# Altium integrated library Cypress PLD Simple.IntLib: 183 symbols (part 4 of 5)
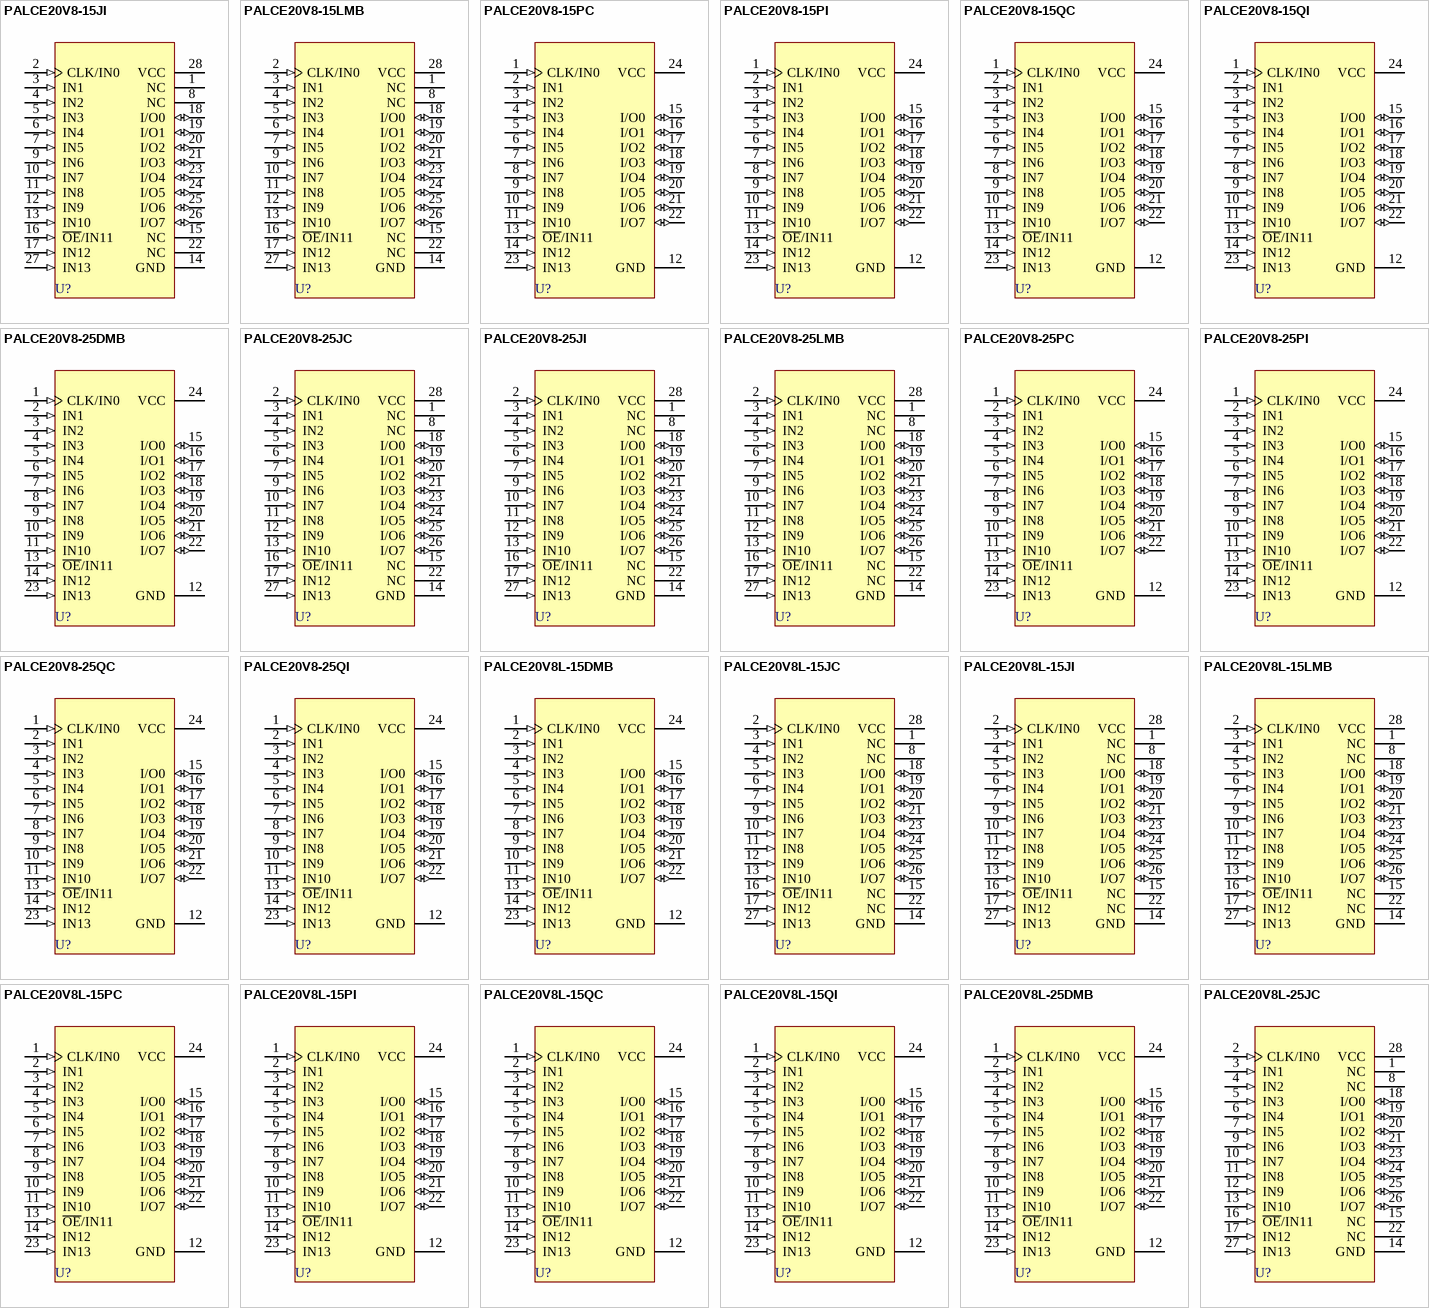
[diagram p10: symbols PALCE20V8-15JI to PALCE20V8L-25JC]

## PALCE20V8L-25DMB
designator U?
Flash Erasable, Reprogrammable CMOS PAL Device; ComponentAvailability: Not for New Design; Published: 11-Dec-2002; LatestRevisionDate: 04-Mar-2005; LatestRevisionNote: Stylized 3D Model Added.; DatasheetVersion: 26-Mar-1997; PackageVersion: Jul-2001; PackageReference: D14; Publisher: Altium Limited; PackageDescription: CerDIP; 24 Leads; Row Spacing 7.62 mm; Pitch 2.54 mm; Code_JEDEC: MS-001-AF; ComponentLink1Description: Manufacturer Link; ComponentLink1URL: http://www.cypress.com/; ComponentLink2Description: Datasheet; ComponentLink2URL: http://www.cypress.com/portal/server.pt/gateway/PTARGS_0_2_1524_209_259_43/http%3B/sjapp20.mis.cypress.com%3B7001/publishedcontent/publish/design_resources/datasheets/contents/palce20v8_5.pdf
footprint D14 (CerDIP; 24 Leads; Row Spacing 7.62 mm; Pitch 2.54 mm)
3D model D14 (CerDIP; 24 Leads; Row Spacing 7.62 mm; Pitch 2.54 mm)
pins: 1 CLK/IN0 (in), 2 IN1 (in), 3 IN2 (in), 4 IN3 (in), 5 IN4 (in), 6 IN5 (in), 7 IN6 (in), 8 IN7 (in), 9 IN8 (in), 10 IN9 (in), 11 IN10 (in), 12 GND (power), 13 ~{OE}/IN11 (in), 14 IN12 (in), 15 I/O0 (io), 16 I/O1 (io), 17 I/O2 (io), 18 I/O3 (io), 19 I/O4 (io), 20 I/O5 (io), 21 I/O6 (io), 22 I/O7 (io), 23 IN13 (in), 24 VCC (power)

## PALCE20V8L-25JC
designator U?
Flash Erasable, Reprogrammable CMOS PAL Device; ComponentAvailability: Not for New Design; Published: 11-Dec-2002; LatestRevisionDate: 13-Apr-2006; LatestRevisionNote: IPC-7351 Footprint Added.; DatasheetVersion: 26-Mar-1997; PackageVersion: Jul-2000; PackageReference: J64; Publisher: Altium Limited; PackageDescription: 28-Pin Plastic Leaded Chip Carrier 1.27 mm Pitch; Code_IPC: PLCC-28; ComponentLink1Description: Manufacturer Link; ComponentLink1URL: http://www.cypress.com/; ComponentLink2Description: Datasheet; ComponentLink2URL: http://www.cypress.com/portal/server.pt/gateway/PTARGS_0_2_1524_209_259_43/http%3B/sjapp20.mis.cypress.com%3B7001/publishedcontent/publish/design_resources/datasheets/contents/palce20v8_5.pdf
footprint J64_N (Leaded Chip Carrier, 28-Leads, Body 11.5x11.5mm, Pitch 1.27mm, IPC Medium Density)
footprint J64_L (Leaded Chip Carrier, 28-Leads, Body 11.5x11.5mm, Pitch 1.27mm, IPC High Density)
footprint J64_M (Leaded Chip Carrier, 28-Leads, Body 11.5x11.5mm, Pitch 1.27mm, IPC Low Density)
3D model PALCE20V8L-J64 (28-Pin Plastic Leaded Chip Carrier 1.27 mm Pitch)
pins: 1 NC, 2 CLK/IN0 (in), 3 IN1 (in), 4 IN2 (in), 5 IN3 (in), 6 IN4 (in), 7 IN5 (in), 8 NC, 9 IN6 (in), 10 IN7 (in), 11 IN8 (in), 12 IN9 (in), 13 IN10 (in), 14 GND (power), 15 NC, 16 ~{OE}/IN11 (in), 17 IN12 (in), 18 I/O0 (io), 19 I/O1 (io), 20 I/O2 (io), 21 I/O3 (io), 22 NC, 23 I/O4 (io), 24 I/O5 (io), 25 I/O6 (io), 26 I/O7 (io), 27 IN13 (in), 28 VCC (power)

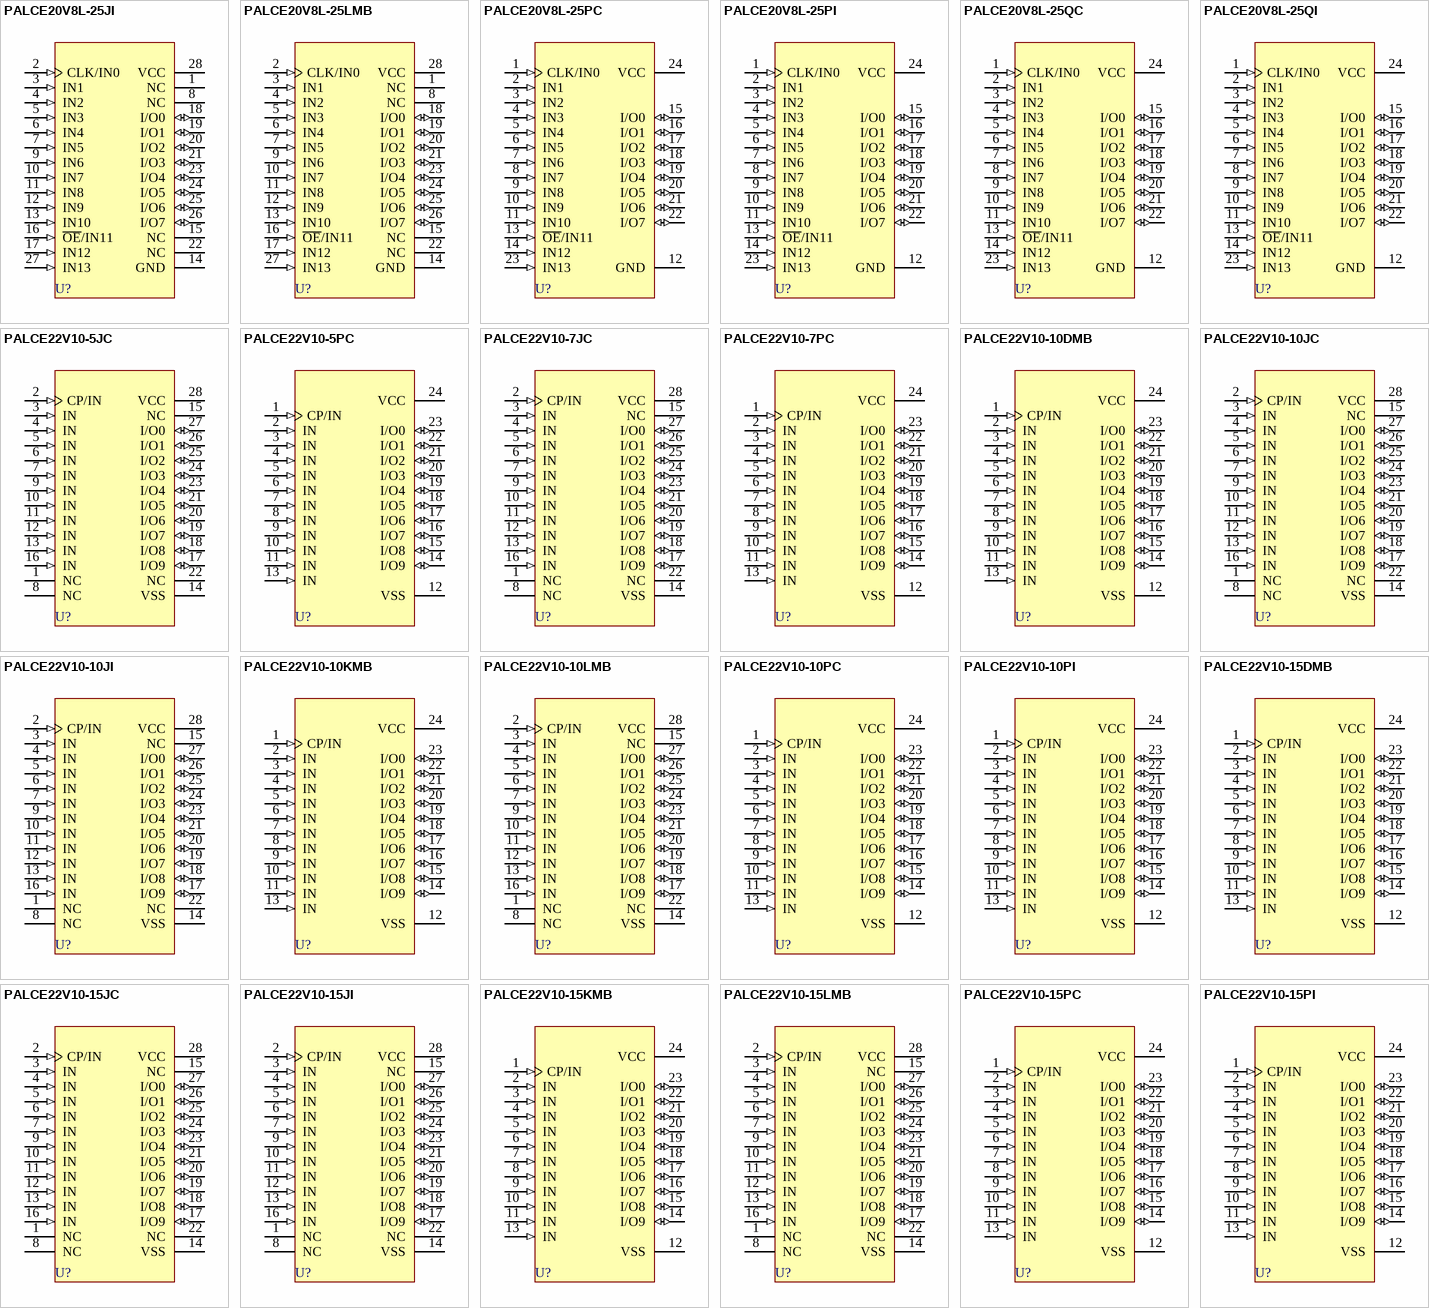
[diagram p5: symbols PALCE20V8L-25JI to PALCE22V10-15PI]

## PALCE20V8L-25JI
designator U?
Flash Erasable, Reprogrammable CMOS PAL Device; ComponentAvailability: Not for New Design; Published: 11-Dec-2002; LatestRevisionDate: 13-Apr-2006; LatestRevisionNote: IPC-7351 Footprint Added.; DatasheetVersion: 26-Mar-1997; PackageVersion: Jul-2000; PackageReference: J64; Publisher: Altium Limited; PackageDescription: 28-Pin Plastic Leaded Chip Carrier 1.27 mm Pitch; Code_IPC: PLCC-28; ComponentLink1Description: Manufacturer Link; ComponentLink1URL: http://www.cypress.com/; ComponentLink2Description: Datasheet; ComponentLink2URL: http://www.cypress.com/portal/server.pt/gateway/PTARGS_0_2_1524_209_259_43/http%3B/sjapp20.mis.cypress.com%3B7001/publishedcontent/publish/design_resources/datasheets/contents/palce20v8_5.pdf
footprint J64_N (Leaded Chip Carrier, 28-Leads, Body 11.5x11.5mm, Pitch 1.27mm, IPC Medium Density)
footprint J64_L (Leaded Chip Carrier, 28-Leads, Body 11.5x11.5mm, Pitch 1.27mm, IPC High Density)
footprint J64_M (Leaded Chip Carrier, 28-Leads, Body 11.5x11.5mm, Pitch 1.27mm, IPC Low Density)
3D model PALCE20V8L-J64 (28-Pin Plastic Leaded Chip Carrier 1.27 mm Pitch)
pins: 1 NC, 2 CLK/IN0 (in), 3 IN1 (in), 4 IN2 (in), 5 IN3 (in), 6 IN4 (in), 7 IN5 (in), 8 NC, 9 IN6 (in), 10 IN7 (in), 11 IN8 (in), 12 IN9 (in), 13 IN10 (in), 14 GND (power), 15 NC, 16 ~{OE}/IN11 (in), 17 IN12 (in), 18 I/O0 (io), 19 I/O1 (io), 20 I/O2 (io), 21 I/O3 (io), 22 NC, 23 I/O4 (io), 24 I/O5 (io), 25 I/O6 (io), 26 I/O7 (io), 27 IN13 (in), 28 VCC (power)

## PALCE20V8L-25LMB
designator U?
Flash Erasable, Reprogrammable CMOS PAL Device; ComponentAvailability: Not for New Design; Published: 11-Dec-2002; DatasheetVersion: 26-Mar-1997; PackageVersion: Apr-2001; PackageReference: L64; Publisher: Altium Limited; PackageDescription: Leadless Chip Carrier; 28 Terminals; Body 11.4 x 11.4 mm; ComponentLink1Description: Manufacturer Link; ComponentLink1URL: http://www.cypress.com/; ComponentLink2Description: Datasheet; ComponentLink2URL: http://www.cypress.com/portal/server.pt/gateway/PTARGS_0_2_1524_209_259_43/http%3B/sjapp20.mis.cypress.com%3B7001/publishedcontent/publish/design_resources/datasheets/contents/palce20v8_5.pdf
footprint L64 (Leadless Chip Carrier; 28 Terminals; Body 11.4 x 11.4 mm)
pins: 1 NC, 2 CLK/IN0 (in), 3 IN1 (in), 4 IN2 (in), 5 IN3 (in), 6 IN4 (in), 7 IN5 (in), 8 NC, 9 IN6 (in), 10 IN7 (in), 11 IN8 (in), 12 IN9 (in), 13 IN10 (in), 14 GND (power), 15 NC, 16 ~{OE}/IN11 (in), 17 IN12 (in), 18 I/O0 (io), 19 I/O1 (io), 20 I/O2 (io), 21 I/O3 (io), 22 NC, 23 I/O4 (io), 24 I/O5 (io), 25 I/O6 (io), 26 I/O7 (io), 27 IN13 (in), 28 VCC (power)

## PALCE20V8L-25PC
designator U?
Flash Erasable, Reprogrammable CMOS PAL Device; ComponentAvailability: Not for New Design; Published: 11-Dec-2002; LatestRevisionDate: 06-Oct-2005; LatestRevisionNote: Increased PCB silkscreen length.; DatasheetVersion: 26-Mar-1997; PackageVersion: Mar-2005; PackageReference: P13; Publisher: Altium Limited; PackageDescription: DIP, Molded; 24 Leads; Row Spacing 7.62 mm; Pitch 2.54 mm; ComponentLink1Description: Manufacturer Link; ComponentLink1URL: http://www.cypress.com/; ComponentLink2Description: Datasheet; ComponentLink2URL: http://www.cypress.com/portal/server.pt/gateway/PTARGS_0_2_1524_209_259_43/http%3B/sjapp20.mis.cypress.com%3B7001/publishedcontent/publish/design_resources/datasheets/contents/palce20v8_5.pdf
footprint P13 (DIP, Molded; 24 Leads; Row Spacing 7.62 mm; Pitch 2.54 mm)
3D model P13 (DIP, Molded; 24 Leads; Row Spacing 7.62 mm; Pitch 2.54 mm)
pins: 1 CLK/IN0 (in), 2 IN1 (in), 3 IN2 (in), 4 IN3 (in), 5 IN4 (in), 6 IN5 (in), 7 IN6 (in), 8 IN7 (in), 9 IN8 (in), 10 IN9 (in), 11 IN10 (in), 12 GND (power), 13 ~{OE}/IN11 (in), 14 IN12 (in), 15 I/O0 (io), 16 I/O1 (io), 17 I/O2 (io), 18 I/O3 (io), 19 I/O4 (io), 20 I/O5 (io), 21 I/O6 (io), 22 I/O7 (io), 23 IN13 (in), 24 VCC (power)

## PALCE20V8L-25PI
designator U?
Flash Erasable, Reprogrammable CMOS PAL Device; ComponentAvailability: Not for New Design; Published: 11-Dec-2002; LatestRevisionDate: 06-Oct-2005; LatestRevisionNote: Increased PCB silkscreen length.; DatasheetVersion: 26-Mar-1997; PackageVersion: Mar-2005; PackageReference: P13; Publisher: Altium Limited; PackageDescription: DIP, Molded; 24 Leads; Row Spacing 7.62 mm; Pitch 2.54 mm; ComponentLink1Description: Manufacturer Link; ComponentLink1URL: http://www.cypress.com/; ComponentLink2Description: Datasheet; ComponentLink2URL: http://www.cypress.com/portal/server.pt/gateway/PTARGS_0_2_1524_209_259_43/http%3B/sjapp20.mis.cypress.com%3B7001/publishedcontent/publish/design_resources/datasheets/contents/palce20v8_5.pdf
footprint P13 (DIP, Molded; 24 Leads; Row Spacing 7.62 mm; Pitch 2.54 mm)
3D model P13 (DIP, Molded; 24 Leads; Row Spacing 7.62 mm; Pitch 2.54 mm)
pins: 1 CLK/IN0 (in), 2 IN1 (in), 3 IN2 (in), 4 IN3 (in), 5 IN4 (in), 6 IN5 (in), 7 IN6 (in), 8 IN7 (in), 9 IN8 (in), 10 IN9 (in), 11 IN10 (in), 12 GND (power), 13 ~{OE}/IN11 (in), 14 IN12 (in), 15 I/O0 (io), 16 I/O1 (io), 17 I/O2 (io), 18 I/O3 (io), 19 I/O4 (io), 20 I/O5 (io), 21 I/O6 (io), 22 I/O7 (io), 23 IN13 (in), 24 VCC (power)

## PALCE20V8L-25QC
designator U?
Flash Erasable, Reprogrammable CMOS PAL Device; ComponentAvailability: Not for New Design; Published: 11-Dec-2002; LatestRevisionDate: 06-Oct-2005; LatestRevisionNote: Decreased pad length.; DatasheetVersion: 26-Mar-1997; PackageVersion: Oct-2004; PackageReference: Q13; Publisher: Altium Limited; PackageDescription: SSOP; 24 Leads; Body Width 3.9 mm; Pitch 0.635 mm; ComponentLink1Description: Manufacturer Link; ComponentLink1URL: http://www.cypress.com/; ComponentLink2Description: Datasheet; ComponentLink2URL: http://www.cypress.com/portal/server.pt/gateway/PTARGS_0_2_1524_209_259_43/http%3B/sjapp20.mis.cypress.com%3B7001/publishedcontent/publish/design_resources/datasheets/contents/palce20v8_5.pdf
footprint Q13 (SSOP; 24 Leads; Body Width 3.9 mm; Pitch 0.635 mm)
3D model Q13 (SSOP; 24 Leads; Body Width 3.9 mm; Pitch 0.635 mm)
pins: 1 CLK/IN0 (in), 2 IN1 (in), 3 IN2 (in), 4 IN3 (in), 5 IN4 (in), 6 IN5 (in), 7 IN6 (in), 8 IN7 (in), 9 IN8 (in), 10 IN9 (in), 11 IN10 (in), 12 GND (power), 13 ~{OE}/IN11 (in), 14 IN12 (in), 15 I/O0 (io), 16 I/O1 (io), 17 I/O2 (io), 18 I/O3 (io), 19 I/O4 (io), 20 I/O5 (io), 21 I/O6 (io), 22 I/O7 (io), 23 IN13 (in), 24 VCC (power)

## PALCE20V8L-25QI
designator U?
Flash Erasable, Reprogrammable CMOS PAL Device; ComponentAvailability: Not for New Design; Published: 11-Dec-2002; LatestRevisionDate: 06-Oct-2005; LatestRevisionNote: Decreased pad length.; DatasheetVersion: 26-Mar-1997; PackageVersion: Oct-2004; PackageReference: Q13; Publisher: Altium Limited; PackageDescription: SSOP; 24 Leads; Body Width 3.9 mm; Pitch 0.635 mm; ComponentLink1Description: Manufacturer Link; ComponentLink1URL: http://www.cypress.com/; ComponentLink2Description: Datasheet; ComponentLink2URL: http://www.cypress.com/portal/server.pt/gateway/PTARGS_0_2_1524_209_259_43/http%3B/sjapp20.mis.cypress.com%3B7001/publishedcontent/publish/design_resources/datasheets/contents/palce20v8_5.pdf
footprint Q13 (SSOP; 24 Leads; Body Width 3.9 mm; Pitch 0.635 mm)
3D model Q13 (SSOP; 24 Leads; Body Width 3.9 mm; Pitch 0.635 mm)
pins: 1 CLK/IN0 (in), 2 IN1 (in), 3 IN2 (in), 4 IN3 (in), 5 IN4 (in), 6 IN5 (in), 7 IN6 (in), 8 IN7 (in), 9 IN8 (in), 10 IN9 (in), 11 IN10 (in), 12 GND (power), 13 ~{OE}/IN11 (in), 14 IN12 (in), 15 I/O0 (io), 16 I/O1 (io), 17 I/O2 (io), 18 I/O3 (io), 19 I/O4 (io), 20 I/O5 (io), 21 I/O6 (io), 22 I/O7 (io), 23 IN13 (in), 24 VCC (power)

## PALCE22V10-5JC
designator U?
Flash Erasable, Reprogrammable CMOS PAL Device; ComponentAvailability: Not for New Design; Published: 11-Dec-2002; LatestRevisionDate: 13-Apr-2006; LatestRevisionNote: IPC-7351 Footprint Added.; DatasheetVersion: Sep-1996; PackageVersion: Jul-2000; PackageReference: J64; Publisher: Altium Limited; PackageDescription: 28-Pin Plastic Leaded Chip Carrier 1.27 mm Pitch; Code_IPC: PLCC-28; ComponentLink1Description: Manufacturer Link; ComponentLink1URL: http://www.cypress.com/; ComponentLink2Description: Datasheet; ComponentLink2URL: http://www.cypress.com/portal/server.pt/gateway/PTARGS_0_2_1524_209_259_43/http%3B/sjapp20.mis.cypress.com%3B7001/publishedcontent/publish/design_resources/datasheets/contents/palce22v10_5.pdf
footprint J64_N (Leaded Chip Carrier, 28-Leads, Body 11.5x11.5mm, Pitch 1.27mm, IPC Medium Density)
footprint J64_L (Leaded Chip Carrier, 28-Leads, Body 11.5x11.5mm, Pitch 1.27mm, IPC High Density)
footprint J64_M (Leaded Chip Carrier, 28-Leads, Body 11.5x11.5mm, Pitch 1.27mm, IPC Low Density)
3D model PALCE22V10-J64 (28-Pin Plastic Leaded Chip Carrier 1.27 mm Pitch)
pins: 1 NC, 2 CP/IN (in), 3 IN (in), 4 IN (in), 5 IN (in), 6 IN (in), 7 IN (in), 8 NC, 9 IN (in), 10 IN (in), 11 IN (in), 12 IN (in), 13 IN (in), 14 VSS (power), 15 NC, 16 IN (in), 17 I/O9 (io), 18 I/O8 (io), 19 I/O7 (io), 20 I/O6 (io), 21 I/O5 (io), 22 NC, 23 I/O4 (io), 24 I/O3 (io), 25 I/O2 (io), 26 I/O1 (io), 27 I/O0 (io), 28 VCC (power)

## PALCE22V10-5PC
designator U?
Flash Erasable, Reprogrammable CMOS PAL Device; ComponentAvailability: Not for New Design; Published: 11-Dec-2002; LatestRevisionDate: 06-Oct-2005; LatestRevisionNote: Increased PCB silkscreen length.; DatasheetVersion: Sep-1996; PackageVersion: Mar-2005; PackageReference: P13; Publisher: Altium Limited; PackageDescription: DIP, Molded; 24 Leads; Row Spacing 7.62 mm; Pitch 2.54 mm; ComponentLink1Description: Manufacturer Link; ComponentLink1URL: http://www.cypress.com/; ComponentLink2Description: Datasheet; ComponentLink2URL: http://www.cypress.com/portal/server.pt/gateway/PTARGS_0_2_1524_209_259_43/http%3B/sjapp20.mis.cypress.com%3B7001/publishedcontent/publish/design_resources/datasheets/contents/palce22v10_5.pdf
footprint P13 (DIP, Molded; 24 Leads; Row Spacing 7.62 mm; Pitch 2.54 mm)
3D model P13 (DIP, Molded; 24 Leads; Row Spacing 7.62 mm; Pitch 2.54 mm)
pins: 1 CP/IN (in), 2 IN (in), 3 IN (in), 4 IN (in), 5 IN (in), 6 IN (in), 7 IN (in), 8 IN (in), 9 IN (in), 10 IN (in), 11 IN (in), 12 VSS (power), 13 IN (in), 14 I/O9 (io), 15 I/O8 (io), 16 I/O7 (io), 17 I/O6 (io), 18 I/O5 (io), 19 I/O4 (io), 20 I/O3 (io), 21 I/O2 (io), 22 I/O1 (io), 23 I/O0 (io), 24 VCC (power)

## PALCE22V10-7JC
designator U?
Flash Erasable, Reprogrammable CMOS PAL Device; ComponentAvailability: Not for New Design; Published: 11-Dec-2002; LatestRevisionDate: 13-Apr-2006; LatestRevisionNote: IPC-7351 Footprint Added.; DatasheetVersion: Sep-1996; PackageVersion: Jul-2000; PackageReference: J64; Publisher: Altium Limited; PackageDescription: 28-Pin Plastic Leaded Chip Carrier 1.27 mm Pitch; Code_IPC: PLCC-28; ComponentLink1Description: Manufacturer Link; ComponentLink1URL: http://www.cypress.com/; ComponentLink2Description: Datasheet; ComponentLink2URL: http://www.cypress.com/portal/server.pt/gateway/PTARGS_0_2_1524_209_259_43/http%3B/sjapp20.mis.cypress.com%3B7001/publishedcontent/publish/design_resources/datasheets/contents/palce22v10_5.pdf
footprint J64_N (Leaded Chip Carrier, 28-Leads, Body 11.5x11.5mm, Pitch 1.27mm, IPC Medium Density)
footprint J64_L (Leaded Chip Carrier, 28-Leads, Body 11.5x11.5mm, Pitch 1.27mm, IPC High Density)
footprint J64_M (Leaded Chip Carrier, 28-Leads, Body 11.5x11.5mm, Pitch 1.27mm, IPC Low Density)
3D model PALCE22V10-J64 (28-Pin Plastic Leaded Chip Carrier 1.27 mm Pitch)
pins: 1 NC, 2 CP/IN (in), 3 IN (in), 4 IN (in), 5 IN (in), 6 IN (in), 7 IN (in), 8 NC, 9 IN (in), 10 IN (in), 11 IN (in), 12 IN (in), 13 IN (in), 14 VSS (power), 15 NC, 16 IN (in), 17 I/O9 (io), 18 I/O8 (io), 19 I/O7 (io), 20 I/O6 (io), 21 I/O5 (io), 22 NC, 23 I/O4 (io), 24 I/O3 (io), 25 I/O2 (io), 26 I/O1 (io), 27 I/O0 (io), 28 VCC (power)

## PALCE22V10-7PC
designator U?
Flash Erasable, Reprogrammable CMOS PAL Device; ComponentAvailability: Not for New Design; Published: 11-Dec-2002; LatestRevisionDate: 06-Oct-2005; LatestRevisionNote: Increased PCB silkscreen length.; DatasheetVersion: Sep-1996; PackageVersion: Mar-2005; PackageReference: P13; Publisher: Altium Limited; PackageDescription: DIP, Molded; 24 Leads; Row Spacing 7.62 mm; Pitch 2.54 mm; ComponentLink1Description: Manufacturer Link; ComponentLink1URL: http://www.cypress.com/; ComponentLink2Description: Datasheet; ComponentLink2URL: http://www.cypress.com/portal/server.pt/gateway/PTARGS_0_2_1524_209_259_43/http%3B/sjapp20.mis.cypress.com%3B7001/publishedcontent/publish/design_resources/datasheets/contents/palce22v10_5.pdf
footprint P13 (DIP, Molded; 24 Leads; Row Spacing 7.62 mm; Pitch 2.54 mm)
3D model P13 (DIP, Molded; 24 Leads; Row Spacing 7.62 mm; Pitch 2.54 mm)
pins: 1 CP/IN (in), 2 IN (in), 3 IN (in), 4 IN (in), 5 IN (in), 6 IN (in), 7 IN (in), 8 IN (in), 9 IN (in), 10 IN (in), 11 IN (in), 12 VSS (power), 13 IN (in), 14 I/O9 (io), 15 I/O8 (io), 16 I/O7 (io), 17 I/O6 (io), 18 I/O5 (io), 19 I/O4 (io), 20 I/O3 (io), 21 I/O2 (io), 22 I/O1 (io), 23 I/O0 (io), 24 VCC (power)

## PALCE22V10-10DMB
designator U?
Flash Erasable, Reprogrammable CMOS PAL Device; ComponentAvailability: Not for New Design; Published: 11-Dec-2002; LatestRevisionDate: 04-Mar-2005; LatestRevisionNote: Stylized 3D Model Added.; DatasheetVersion: Sep-1996; PackageVersion: Jul-2001; PackageReference: D14; Publisher: Altium Limited; PackageDescription: CerDIP; 24 Leads; Row Spacing 7.62 mm; Pitch 2.54 mm; Code_JEDEC: MS-001-AF; ComponentLink1Description: Manufacturer Link; ComponentLink1URL: http://www.cypress.com/; ComponentLink2Description: Datasheet; ComponentLink2URL: http://www.cypress.com/portal/server.pt/gateway/PTARGS_0_2_1524_209_259_43/http%3B/sjapp20.mis.cypress.com%3B7001/publishedcontent/publish/design_resources/datasheets/contents/palce22v10_5.pdf
footprint D14 (CerDIP; 24 Leads; Row Spacing 7.62 mm; Pitch 2.54 mm)
3D model D14 (CerDIP; 24 Leads; Row Spacing 7.62 mm; Pitch 2.54 mm)
pins: 1 CP/IN (in), 2 IN (in), 3 IN (in), 4 IN (in), 5 IN (in), 6 IN (in), 7 IN (in), 8 IN (in), 9 IN (in), 10 IN (in), 11 IN (in), 12 VSS (power), 13 IN (in), 14 I/O9 (io), 15 I/O8 (io), 16 I/O7 (io), 17 I/O6 (io), 18 I/O5 (io), 19 I/O4 (io), 20 I/O3 (io), 21 I/O2 (io), 22 I/O1 (io), 23 I/O0 (io), 24 VCC (power)

## PALCE22V10-10JC
designator U?
Flash Erasable, Reprogrammable CMOS PAL Device; ComponentAvailability: Not for New Design; Published: 11-Dec-2002; LatestRevisionDate: 13-Apr-2006; LatestRevisionNote: IPC-7351 Footprint Added.; DatasheetVersion: Sep-1996; PackageVersion: Jul-2000; PackageReference: J64; Publisher: Altium Limited; PackageDescription: 28-Pin Plastic Leaded Chip Carrier 1.27 mm Pitch; Code_IPC: PLCC-28; ComponentLink1Description: Manufacturer Link; ComponentLink1URL: http://www.cypress.com/; ComponentLink2Description: Datasheet; ComponentLink2URL: http://www.cypress.com/portal/server.pt/gateway/PTARGS_0_2_1524_209_259_43/http%3B/sjapp20.mis.cypress.com%3B7001/publishedcontent/publish/design_resources/datasheets/contents/palce22v10_5.pdf
footprint J64_N (Leaded Chip Carrier, 28-Leads, Body 11.5x11.5mm, Pitch 1.27mm, IPC Medium Density)
footprint J64_L (Leaded Chip Carrier, 28-Leads, Body 11.5x11.5mm, Pitch 1.27mm, IPC High Density)
footprint J64_M (Leaded Chip Carrier, 28-Leads, Body 11.5x11.5mm, Pitch 1.27mm, IPC Low Density)
3D model PALCE22V10-J64 (28-Pin Plastic Leaded Chip Carrier 1.27 mm Pitch)
pins: 1 NC, 2 CP/IN (in), 3 IN (in), 4 IN (in), 5 IN (in), 6 IN (in), 7 IN (in), 8 NC, 9 IN (in), 10 IN (in), 11 IN (in), 12 IN (in), 13 IN (in), 14 VSS (power), 15 NC, 16 IN (in), 17 I/O9 (io), 18 I/O8 (io), 19 I/O7 (io), 20 I/O6 (io), 21 I/O5 (io), 22 NC, 23 I/O4 (io), 24 I/O3 (io), 25 I/O2 (io), 26 I/O1 (io), 27 I/O0 (io), 28 VCC (power)

## PALCE22V10-10JI
designator U?
Flash Erasable, Reprogrammable CMOS PAL Device; ComponentAvailability: Not for New Design; Published: 11-Dec-2002; LatestRevisionDate: 13-Apr-2006; LatestRevisionNote: IPC-7351 Footprint Added.; DatasheetVersion: Sep-1996; PackageVersion: Jul-2000; PackageReference: J64; Publisher: Altium Limited; PackageDescription: 28-Pin Plastic Leaded Chip Carrier 1.27 mm Pitch; Code_IPC: PLCC-28; ComponentLink1Description: Manufacturer Link; ComponentLink1URL: http://www.cypress.com/; ComponentLink2Description: Datasheet; ComponentLink2URL: http://www.cypress.com/portal/server.pt/gateway/PTARGS_0_2_1524_209_259_43/http%3B/sjapp20.mis.cypress.com%3B7001/publishedcontent/publish/design_resources/datasheets/contents/palce22v10_5.pdf
footprint J64_N (Leaded Chip Carrier, 28-Leads, Body 11.5x11.5mm, Pitch 1.27mm, IPC Medium Density)
footprint J64_L (Leaded Chip Carrier, 28-Leads, Body 11.5x11.5mm, Pitch 1.27mm, IPC High Density)
footprint J64_M (Leaded Chip Carrier, 28-Leads, Body 11.5x11.5mm, Pitch 1.27mm, IPC Low Density)
3D model PALCE22V10-J64 (28-Pin Plastic Leaded Chip Carrier 1.27 mm Pitch)
pins: 1 NC, 2 CP/IN (in), 3 IN (in), 4 IN (in), 5 IN (in), 6 IN (in), 7 IN (in), 8 NC, 9 IN (in), 10 IN (in), 11 IN (in), 12 IN (in), 13 IN (in), 14 VSS (power), 15 NC, 16 IN (in), 17 I/O9 (io), 18 I/O8 (io), 19 I/O7 (io), 20 I/O6 (io), 21 I/O5 (io), 22 NC, 23 I/O4 (io), 24 I/O3 (io), 25 I/O2 (io), 26 I/O1 (io), 27 I/O0 (io), 28 VCC (power)

## PALCE22V10-10KMB
designator U?
Flash Erasable, Reprogrammable CMOS PAL Device; ComponentAvailability: Not for New Design; Published: 11-Dec-2002; LatestRevisionDate: 04-Mar-2005; LatestRevisionNote: Stylized 3D Model Added.; DatasheetVersion: Sep-1996; PackageVersion: Jul-2001; PackageReference: K73; Publisher: Altium Limited; PackageDescription: DFP; 24 Leads; Body 15.7 x 10.2 mm (LxW max); Pitch 1.27 mm; Code_IPC: MO-019(24); ComponentLink1Description: Manufacturer Link; ComponentLink1URL: http://www.cypress.com/; ComponentLink2Description: Datasheet; ComponentLink2URL: http://www.cypress.com/portal/server.pt/gateway/PTARGS_0_2_1524_209_259_43/http%3B/sjapp20.mis.cypress.com%3B7001/publishedcontent/publish/design_resources/datasheets/contents/palce22v10_5.pdf
footprint K73 (DFP; 24 Leads; Body 15.7 x 10.2 mm (LxW max); Pitch 1.27 mm)
3D model K73 (DFP; 24 Leads; Body 15.7 x 10.2 mm (LxW max); Pitch 1.27 mm)
pins: 1 CP/IN (in), 2 IN (in), 3 IN (in), 4 IN (in), 5 IN (in), 6 IN (in), 7 IN (in), 8 IN (in), 9 IN (in), 10 IN (in), 11 IN (in), 12 VSS (power), 13 IN (in), 14 I/O9 (io), 15 I/O8 (io), 16 I/O7 (io), 17 I/O6 (io), 18 I/O5 (io), 19 I/O4 (io), 20 I/O3 (io), 21 I/O2 (io), 22 I/O1 (io), 23 I/O0 (io), 24 VCC (power)

## PALCE22V10-10LMB
designator U?
Flash Erasable, Reprogrammable CMOS PAL Device; ComponentAvailability: Not for New Design; Published: 11-Dec-2002; DatasheetVersion: Sep-1996; PackageVersion: Apr-2001; PackageReference: L64; Publisher: Altium Limited; PackageDescription: Leadless Chip Carrier; 28 Terminals; Body 11.4 x 11.4 mm; ComponentLink1Description: Manufacturer Link; ComponentLink1URL: http://www.cypress.com/; ComponentLink2Description: Datasheet; ComponentLink2URL: http://www.cypress.com/portal/server.pt/gateway/PTARGS_0_2_1524_209_259_43/http%3B/sjapp20.mis.cypress.com%3B7001/publishedcontent/publish/design_resources/datasheets/contents/palce22v10_5.pdf
footprint L64 (Leadless Chip Carrier; 28 Terminals; Body 11.4 x 11.4 mm)
pins: 1 NC, 2 CP/IN (in), 3 IN (in), 4 IN (in), 5 IN (in), 6 IN (in), 7 IN (in), 8 NC, 9 IN (in), 10 IN (in), 11 IN (in), 12 IN (in), 13 IN (in), 14 VSS (power), 15 NC, 16 IN (in), 17 I/O9 (io), 18 I/O8 (io), 19 I/O7 (io), 20 I/O6 (io), 21 I/O5 (io), 22 NC, 23 I/O4 (io), 24 I/O3 (io), 25 I/O2 (io), 26 I/O1 (io), 27 I/O0 (io), 28 VCC (power)

## PALCE22V10-10PC
designator U?
Flash Erasable, Reprogrammable CMOS PAL Device; ComponentAvailability: Not for New Design; Published: 11-Dec-2002; LatestRevisionDate: 06-Oct-2005; LatestRevisionNote: Increased PCB silkscreen length.; DatasheetVersion: Sep-1996; PackageVersion: Mar-2005; PackageReference: P13; Publisher: Altium Limited; PackageDescription: DIP, Molded; 24 Leads; Row Spacing 7.62 mm; Pitch 2.54 mm; ComponentLink1Description: Manufacturer Link; ComponentLink1URL: http://www.cypress.com/; ComponentLink2Description: Datasheet; ComponentLink2URL: http://www.cypress.com/portal/server.pt/gateway/PTARGS_0_2_1524_209_259_43/http%3B/sjapp20.mis.cypress.com%3B7001/publishedcontent/publish/design_resources/datasheets/contents/palce22v10_5.pdf
footprint P13 (DIP, Molded; 24 Leads; Row Spacing 7.62 mm; Pitch 2.54 mm)
3D model P13 (DIP, Molded; 24 Leads; Row Spacing 7.62 mm; Pitch 2.54 mm)
pins: 1 CP/IN (in), 2 IN (in), 3 IN (in), 4 IN (in), 5 IN (in), 6 IN (in), 7 IN (in), 8 IN (in), 9 IN (in), 10 IN (in), 11 IN (in), 12 VSS (power), 13 IN (in), 14 I/O9 (io), 15 I/O8 (io), 16 I/O7 (io), 17 I/O6 (io), 18 I/O5 (io), 19 I/O4 (io), 20 I/O3 (io), 21 I/O2 (io), 22 I/O1 (io), 23 I/O0 (io), 24 VCC (power)

## PALCE22V10-10PI
designator U?
Flash Erasable, Reprogrammable CMOS PAL Device; ComponentAvailability: Not for New Design; Published: 11-Dec-2002; LatestRevisionDate: 06-Oct-2005; LatestRevisionNote: Increased PCB silkscreen length.; DatasheetVersion: Sep-1996; PackageVersion: Mar-2005; PackageReference: P13; Publisher: Altium Limited; PackageDescription: DIP, Molded; 24 Leads; Row Spacing 7.62 mm; Pitch 2.54 mm; ComponentLink1Description: Manufacturer Link; ComponentLink1URL: http://www.cypress.com/; ComponentLink2Description: Datasheet; ComponentLink2URL: http://www.cypress.com/portal/server.pt/gateway/PTARGS_0_2_1524_209_259_43/http%3B/sjapp20.mis.cypress.com%3B7001/publishedcontent/publish/design_resources/datasheets/contents/palce22v10_5.pdf
footprint P13 (DIP, Molded; 24 Leads; Row Spacing 7.62 mm; Pitch 2.54 mm)
3D model P13 (DIP, Molded; 24 Leads; Row Spacing 7.62 mm; Pitch 2.54 mm)
pins: 1 CP/IN (in), 2 IN (in), 3 IN (in), 4 IN (in), 5 IN (in), 6 IN (in), 7 IN (in), 8 IN (in), 9 IN (in), 10 IN (in), 11 IN (in), 12 VSS (power), 13 IN (in), 14 I/O9 (io), 15 I/O8 (io), 16 I/O7 (io), 17 I/O6 (io), 18 I/O5 (io), 19 I/O4 (io), 20 I/O3 (io), 21 I/O2 (io), 22 I/O1 (io), 23 I/O0 (io), 24 VCC (power)

## PALCE22V10-15DMB
designator U?
Flash Erasable, Reprogrammable CMOS PAL Device; ComponentAvailability: Not for New Design; Published: 11-Dec-2002; LatestRevisionDate: 04-Mar-2005; LatestRevisionNote: Stylized 3D Model Added.; DatasheetVersion: Sep-1996; PackageVersion: Jul-2001; PackageReference: D14; Publisher: Altium Limited; PackageDescription: CerDIP; 24 Leads; Row Spacing 7.62 mm; Pitch 2.54 mm; Code_JEDEC: MS-001-AF; ComponentLink1Description: Manufacturer Link; ComponentLink1URL: http://www.cypress.com/; ComponentLink2Description: Datasheet; ComponentLink2URL: http://www.cypress.com/portal/server.pt/gateway/PTARGS_0_2_1524_209_259_43/http%3B/sjapp20.mis.cypress.com%3B7001/publishedcontent/publish/design_resources/datasheets/contents/palce22v10_5.pdf
footprint D14 (CerDIP; 24 Leads; Row Spacing 7.62 mm; Pitch 2.54 mm)
3D model D14 (CerDIP; 24 Leads; Row Spacing 7.62 mm; Pitch 2.54 mm)
pins: 1 CP/IN (in), 2 IN (in), 3 IN (in), 4 IN (in), 5 IN (in), 6 IN (in), 7 IN (in), 8 IN (in), 9 IN (in), 10 IN (in), 11 IN (in), 12 VSS (power), 13 IN (in), 14 I/O9 (io), 15 I/O8 (io), 16 I/O7 (io), 17 I/O6 (io), 18 I/O5 (io), 19 I/O4 (io), 20 I/O3 (io), 21 I/O2 (io), 22 I/O1 (io), 23 I/O0 (io), 24 VCC (power)

## PALCE22V10-15JC
designator U?
Flash Erasable, Reprogrammable CMOS PAL Device; ComponentAvailability: Not for New Design; Published: 11-Dec-2002; LatestRevisionDate: 13-Apr-2006; LatestRevisionNote: IPC-7351 Footprint Added.; DatasheetVersion: Sep-1996; PackageVersion: Jul-2000; PackageReference: J64; Publisher: Altium Limited; PackageDescription: 28-Pin Plastic Leaded Chip Carrier 1.27 mm Pitch; Code_IPC: PLCC-28; ComponentLink1Description: Manufacturer Link; ComponentLink1URL: http://www.cypress.com/; ComponentLink2Description: Datasheet; ComponentLink2URL: http://www.cypress.com/portal/server.pt/gateway/PTARGS_0_2_1524_209_259_43/http%3B/sjapp20.mis.cypress.com%3B7001/publishedcontent/publish/design_resources/datasheets/contents/palce22v10_5.pdf
footprint J64_N (Leaded Chip Carrier, 28-Leads, Body 11.5x11.5mm, Pitch 1.27mm, IPC Medium Density)
footprint J64_L (Leaded Chip Carrier, 28-Leads, Body 11.5x11.5mm, Pitch 1.27mm, IPC High Density)
footprint J64_M (Leaded Chip Carrier, 28-Leads, Body 11.5x11.5mm, Pitch 1.27mm, IPC Low Density)
3D model PALCE22V10-J64 (28-Pin Plastic Leaded Chip Carrier 1.27 mm Pitch)
pins: 1 NC, 2 CP/IN (in), 3 IN (in), 4 IN (in), 5 IN (in), 6 IN (in), 7 IN (in), 8 NC, 9 IN (in), 10 IN (in), 11 IN (in), 12 IN (in), 13 IN (in), 14 VSS (power), 15 NC, 16 IN (in), 17 I/O9 (io), 18 I/O8 (io), 19 I/O7 (io), 20 I/O6 (io), 21 I/O5 (io), 22 NC, 23 I/O4 (io), 24 I/O3 (io), 25 I/O2 (io), 26 I/O1 (io), 27 I/O0 (io), 28 VCC (power)

## PALCE22V10-15JI
designator U?
Flash Erasable, Reprogrammable CMOS PAL Device; ComponentAvailability: Not for New Design; Published: 11-Dec-2002; LatestRevisionDate: 13-Apr-2006; LatestRevisionNote: IPC-7351 Footprint Added.; DatasheetVersion: Sep-1996; PackageVersion: Jul-2000; PackageReference: J64; Publisher: Altium Limited; PackageDescription: 28-Pin Plastic Leaded Chip Carrier 1.27 mm Pitch; Code_IPC: PLCC-28; ComponentLink1Description: Manufacturer Link; ComponentLink1URL: http://www.cypress.com/; ComponentLink2Description: Datasheet; ComponentLink2URL: http://www.cypress.com/portal/server.pt/gateway/PTARGS_0_2_1524_209_259_43/http%3B/sjapp20.mis.cypress.com%3B7001/publishedcontent/publish/design_resources/datasheets/contents/palce22v10_5.pdf
footprint J64_N (Leaded Chip Carrier, 28-Leads, Body 11.5x11.5mm, Pitch 1.27mm, IPC Medium Density)
footprint J64_L (Leaded Chip Carrier, 28-Leads, Body 11.5x11.5mm, Pitch 1.27mm, IPC High Density)
footprint J64_M (Leaded Chip Carrier, 28-Leads, Body 11.5x11.5mm, Pitch 1.27mm, IPC Low Density)
3D model PALCE22V10-J64 (28-Pin Plastic Leaded Chip Carrier 1.27 mm Pitch)
pins: 1 NC, 2 CP/IN (in), 3 IN (in), 4 IN (in), 5 IN (in), 6 IN (in), 7 IN (in), 8 NC, 9 IN (in), 10 IN (in), 11 IN (in), 12 IN (in), 13 IN (in), 14 VSS (power), 15 NC, 16 IN (in), 17 I/O9 (io), 18 I/O8 (io), 19 I/O7 (io), 20 I/O6 (io), 21 I/O5 (io), 22 NC, 23 I/O4 (io), 24 I/O3 (io), 25 I/O2 (io), 26 I/O1 (io), 27 I/O0 (io), 28 VCC (power)

## PALCE22V10-15KMB
designator U?
Flash Erasable, Reprogrammable CMOS PAL Device; ComponentAvailability: Not for New Design; Published: 11-Dec-2002; LatestRevisionDate: 04-Mar-2005; LatestRevisionNote: Stylized 3D Model Added.; DatasheetVersion: Sep-1996; PackageVersion: Jul-2001; PackageReference: K73; Publisher: Altium Limited; PackageDescription: DFP; 24 Leads; Body 15.7 x 10.2 mm (LxW max); Pitch 1.27 mm; Code_IPC: MO-019(24); ComponentLink1Description: Manufacturer Link; ComponentLink1URL: http://www.cypress.com/; ComponentLink2Description: Datasheet; ComponentLink2URL: http://www.cypress.com/portal/server.pt/gateway/PTARGS_0_2_1524_209_259_43/http%3B/sjapp20.mis.cypress.com%3B7001/publishedcontent/publish/design_resources/datasheets/contents/palce22v10_5.pdf
footprint K73 (DFP; 24 Leads; Body 15.7 x 10.2 mm (LxW max); Pitch 1.27 mm)
3D model K73 (DFP; 24 Leads; Body 15.7 x 10.2 mm (LxW max); Pitch 1.27 mm)
pins: 1 CP/IN (in), 2 IN (in), 3 IN (in), 4 IN (in), 5 IN (in), 6 IN (in), 7 IN (in), 8 IN (in), 9 IN (in), 10 IN (in), 11 IN (in), 12 VSS (power), 13 IN (in), 14 I/O9 (io), 15 I/O8 (io), 16 I/O7 (io), 17 I/O6 (io), 18 I/O5 (io), 19 I/O4 (io), 20 I/O3 (io), 21 I/O2 (io), 22 I/O1 (io), 23 I/O0 (io), 24 VCC (power)

## PALCE22V10-15LMB
designator U?
Flash Erasable, Reprogrammable CMOS PAL Device; ComponentAvailability: Not for New Design; Published: 11-Dec-2002; DatasheetVersion: Sep-1996; PackageVersion: Apr-2001; PackageReference: L64; Publisher: Altium Limited; PackageDescription: Leadless Chip Carrier; 28 Terminals; Body 11.4 x 11.4 mm; ComponentLink1Description: Manufacturer Link; ComponentLink1URL: http://www.cypress.com/; ComponentLink2Description: Datasheet; ComponentLink2URL: http://www.cypress.com/portal/server.pt/gateway/PTARGS_0_2_1524_209_259_43/http%3B/sjapp20.mis.cypress.com%3B7001/publishedcontent/publish/design_resources/datasheets/contents/palce22v10_5.pdf
footprint L64 (Leadless Chip Carrier; 28 Terminals; Body 11.4 x 11.4 mm)
pins: 1 NC, 2 CP/IN (in), 3 IN (in), 4 IN (in), 5 IN (in), 6 IN (in), 7 IN (in), 8 NC, 9 IN (in), 10 IN (in), 11 IN (in), 12 IN (in), 13 IN (in), 14 VSS (power), 15 NC, 16 IN (in), 17 I/O9 (io), 18 I/O8 (io), 19 I/O7 (io), 20 I/O6 (io), 21 I/O5 (io), 22 NC, 23 I/O4 (io), 24 I/O3 (io), 25 I/O2 (io), 26 I/O1 (io), 27 I/O0 (io), 28 VCC (power)

## PALCE22V10-15PC
designator U?
Flash Erasable, Reprogrammable CMOS PAL Device; ComponentAvailability: Not for New Design; Published: 11-Dec-2002; LatestRevisionDate: 06-Oct-2005; LatestRevisionNote: Increased PCB silkscreen length.; DatasheetVersion: Sep-1996; PackageVersion: Mar-2005; PackageReference: P13; Publisher: Altium Limited; PackageDescription: DIP, Molded; 24 Leads; Row Spacing 7.62 mm; Pitch 2.54 mm; ComponentLink1Description: Manufacturer Link; ComponentLink1URL: http://www.cypress.com/; ComponentLink2Description: Datasheet; ComponentLink2URL: http://www.cypress.com/portal/server.pt/gateway/PTARGS_0_2_1524_209_259_43/http%3B/sjapp20.mis.cypress.com%3B7001/publishedcontent/publish/design_resources/datasheets/contents/palce22v10_5.pdf
footprint P13 (DIP, Molded; 24 Leads; Row Spacing 7.62 mm; Pitch 2.54 mm)
3D model P13 (DIP, Molded; 24 Leads; Row Spacing 7.62 mm; Pitch 2.54 mm)
pins: 1 CP/IN (in), 2 IN (in), 3 IN (in), 4 IN (in), 5 IN (in), 6 IN (in), 7 IN (in), 8 IN (in), 9 IN (in), 10 IN (in), 11 IN (in), 12 VSS (power), 13 IN (in), 14 I/O9 (io), 15 I/O8 (io), 16 I/O7 (io), 17 I/O6 (io), 18 I/O5 (io), 19 I/O4 (io), 20 I/O3 (io), 21 I/O2 (io), 22 I/O1 (io), 23 I/O0 (io), 24 VCC (power)

## PALCE22V10-15PI
designator U?
Flash Erasable, Reprogrammable CMOS PAL Device; ComponentAvailability: Not for New Design; Published: 11-Dec-2002; LatestRevisionDate: 06-Oct-2005; LatestRevisionNote: Increased PCB silkscreen length.; DatasheetVersion: Sep-1996; PackageVersion: Mar-2005; PackageReference: P13; Publisher: Altium Limited; PackageDescription: DIP, Molded; 24 Leads; Row Spacing 7.62 mm; Pitch 2.54 mm; ComponentLink1Description: Manufacturer Link; ComponentLink1URL: http://www.cypress.com/; ComponentLink2Description: Datasheet; ComponentLink2URL: http://www.cypress.com/portal/server.pt/gateway/PTARGS_0_2_1524_209_259_43/http%3B/sjapp20.mis.cypress.com%3B7001/publishedcontent/publish/design_resources/datasheets/contents/palce22v10_5.pdf
footprint P13 (DIP, Molded; 24 Leads; Row Spacing 7.62 mm; Pitch 2.54 mm)
3D model P13 (DIP, Molded; 24 Leads; Row Spacing 7.62 mm; Pitch 2.54 mm)
pins: 1 CP/IN (in), 2 IN (in), 3 IN (in), 4 IN (in), 5 IN (in), 6 IN (in), 7 IN (in), 8 IN (in), 9 IN (in), 10 IN (in), 11 IN (in), 12 VSS (power), 13 IN (in), 14 I/O9 (io), 15 I/O8 (io), 16 I/O7 (io), 17 I/O6 (io), 18 I/O5 (io), 19 I/O4 (io), 20 I/O3 (io), 21 I/O2 (io), 22 I/O1 (io), 23 I/O0 (io), 24 VCC (power)

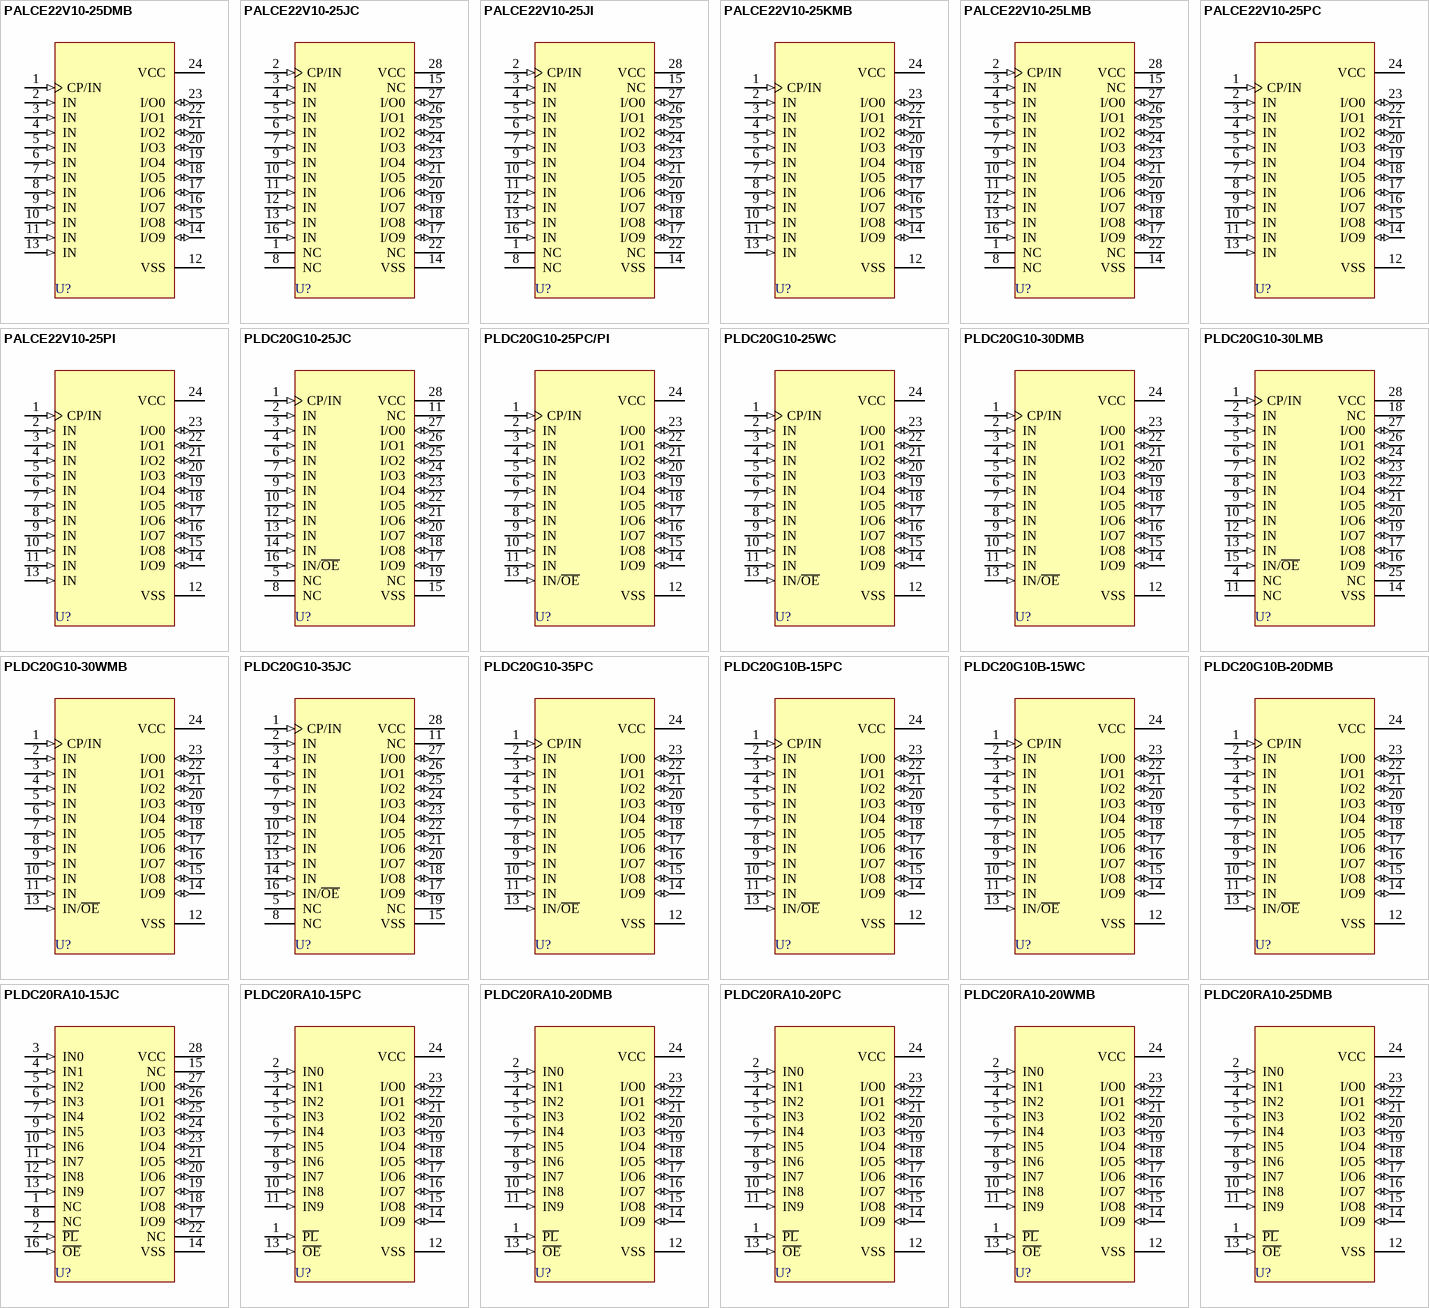
[diagram p6: symbols PALCE22V10-25DMB to PLDC20RA10-25DMB]

## PALCE22V10-25DMB
designator U?
Flash Erasable, Reprogrammable CMOS PAL Device; ComponentAvailability: Not for New Design; Published: 11-Dec-2002; LatestRevisionDate: 04-Mar-2005; LatestRevisionNote: Stylized 3D Model Added.; DatasheetVersion: Sep-1996; PackageVersion: Jul-2001; PackageReference: D14; Publisher: Altium Limited; PackageDescription: CerDIP; 24 Leads; Row Spacing 7.62 mm; Pitch 2.54 mm; Code_JEDEC: MS-001-AF; ComponentLink1Description: Manufacturer Link; ComponentLink1URL: http://www.cypress.com/; ComponentLink2Description: Datasheet; ComponentLink2URL: http://www.cypress.com/portal/server.pt/gateway/PTARGS_0_2_1524_209_259_43/http%3B/sjapp20.mis.cypress.com%3B7001/publishedcontent/publish/design_resources/datasheets/contents/palce22v10_5.pdf
footprint D14 (CerDIP; 24 Leads; Row Spacing 7.62 mm; Pitch 2.54 mm)
3D model D14 (CerDIP; 24 Leads; Row Spacing 7.62 mm; Pitch 2.54 mm)
pins: 1 CP/IN (in), 2 IN (in), 3 IN (in), 4 IN (in), 5 IN (in), 6 IN (in), 7 IN (in), 8 IN (in), 9 IN (in), 10 IN (in), 11 IN (in), 12 VSS (power), 13 IN (in), 14 I/O9 (io), 15 I/O8 (io), 16 I/O7 (io), 17 I/O6 (io), 18 I/O5 (io), 19 I/O4 (io), 20 I/O3 (io), 21 I/O2 (io), 22 I/O1 (io), 23 I/O0 (io), 24 VCC (power)

## PALCE22V10-25JC
designator U?
Flash Erasable, Reprogrammable CMOS PAL Device; ComponentAvailability: Not for New Design; Published: 11-Dec-2002; LatestRevisionDate: 13-Apr-2006; LatestRevisionNote: IPC-7351 Footprint Added.; DatasheetVersion: Sep-1996; PackageVersion: Jul-2000; PackageReference: J64; Publisher: Altium Limited; PackageDescription: 28-Pin Plastic Leaded Chip Carrier 1.27 mm Pitch; Code_IPC: PLCC-28; ComponentLink1Description: Manufacturer Link; ComponentLink1URL: http://www.cypress.com/; ComponentLink2Description: Datasheet; ComponentLink2URL: http://www.cypress.com/portal/server.pt/gateway/PTARGS_0_2_1524_209_259_43/http%3B/sjapp20.mis.cypress.com%3B7001/publishedcontent/publish/design_resources/datasheets/contents/palce22v10_5.pdf
footprint J64_N (Leaded Chip Carrier, 28-Leads, Body 11.5x11.5mm, Pitch 1.27mm, IPC Medium Density)
footprint J64_L (Leaded Chip Carrier, 28-Leads, Body 11.5x11.5mm, Pitch 1.27mm, IPC High Density)
footprint J64_M (Leaded Chip Carrier, 28-Leads, Body 11.5x11.5mm, Pitch 1.27mm, IPC Low Density)
3D model PALCE22V10-J64 (28-Pin Plastic Leaded Chip Carrier 1.27 mm Pitch)
pins: 1 NC, 2 CP/IN (in), 3 IN (in), 4 IN (in), 5 IN (in), 6 IN (in), 7 IN (in), 8 NC, 9 IN (in), 10 IN (in), 11 IN (in), 12 IN (in), 13 IN (in), 14 VSS (power), 15 NC, 16 IN (in), 17 I/O9 (io), 18 I/O8 (io), 19 I/O7 (io), 20 I/O6 (io), 21 I/O5 (io), 22 NC, 23 I/O4 (io), 24 I/O3 (io), 25 I/O2 (io), 26 I/O1 (io), 27 I/O0 (io), 28 VCC (power)

## PALCE22V10-25JI
designator U?
Flash Erasable, Reprogrammable CMOS PAL Device; ComponentAvailability: Not for New Design; Published: 11-Dec-2002; LatestRevisionDate: 13-Apr-2006; LatestRevisionNote: IPC-7351 Footprint Added.; DatasheetVersion: Sep-1996; PackageVersion: Jul-2000; PackageReference: J64; Publisher: Altium Limited; PackageDescription: 28-Pin Plastic Leaded Chip Carrier 1.27 mm Pitch; Code_IPC: PLCC-28; ComponentLink1Description: Manufacturer Link; ComponentLink1URL: http://www.cypress.com/; ComponentLink2Description: Datasheet; ComponentLink2URL: http://www.cypress.com/portal/server.pt/gateway/PTARGS_0_2_1524_209_259_43/http%3B/sjapp20.mis.cypress.com%3B7001/publishedcontent/publish/design_resources/datasheets/contents/palce22v10_5.pdf
footprint J64_N (Leaded Chip Carrier, 28-Leads, Body 11.5x11.5mm, Pitch 1.27mm, IPC Medium Density)
footprint J64_L (Leaded Chip Carrier, 28-Leads, Body 11.5x11.5mm, Pitch 1.27mm, IPC High Density)
footprint J64_M (Leaded Chip Carrier, 28-Leads, Body 11.5x11.5mm, Pitch 1.27mm, IPC Low Density)
3D model PALCE22V10-J64 (28-Pin Plastic Leaded Chip Carrier 1.27 mm Pitch)
pins: 1 NC, 2 CP/IN (in), 3 IN (in), 4 IN (in), 5 IN (in), 6 IN (in), 7 IN (in), 8 NC, 9 IN (in), 10 IN (in), 11 IN (in), 12 IN (in), 13 IN (in), 14 VSS (power), 15 NC, 16 IN (in), 17 I/O9 (io), 18 I/O8 (io), 19 I/O7 (io), 20 I/O6 (io), 21 I/O5 (io), 22 NC, 23 I/O4 (io), 24 I/O3 (io), 25 I/O2 (io), 26 I/O1 (io), 27 I/O0 (io), 28 VCC (power)

## PALCE22V10-25KMB
designator U?
Flash Erasable, Reprogrammable CMOS PAL Device; ComponentAvailability: Not for New Design; Published: 11-Dec-2002; LatestRevisionDate: 04-Mar-2005; LatestRevisionNote: Stylized 3D Model Added.; DatasheetVersion: Sep-1996; PackageVersion: Jul-2001; PackageReference: K73; Publisher: Altium Limited; PackageDescription: DFP; 24 Leads; Body 15.7 x 10.2 mm (LxW max); Pitch 1.27 mm; Code_IPC: MO-019(24); ComponentLink1Description: Manufacturer Link; ComponentLink1URL: http://www.cypress.com/; ComponentLink2Description: Datasheet; ComponentLink2URL: http://www.cypress.com/portal/server.pt/gateway/PTARGS_0_2_1524_209_259_43/http%3B/sjapp20.mis.cypress.com%3B7001/publishedcontent/publish/design_resources/datasheets/contents/palce22v10_5.pdf
footprint K73 (DFP; 24 Leads; Body 15.7 x 10.2 mm (LxW max); Pitch 1.27 mm)
3D model K73 (DFP; 24 Leads; Body 15.7 x 10.2 mm (LxW max); Pitch 1.27 mm)
pins: 1 CP/IN (in), 2 IN (in), 3 IN (in), 4 IN (in), 5 IN (in), 6 IN (in), 7 IN (in), 8 IN (in), 9 IN (in), 10 IN (in), 11 IN (in), 12 VSS (power), 13 IN (in), 14 I/O9 (io), 15 I/O8 (io), 16 I/O7 (io), 17 I/O6 (io), 18 I/O5 (io), 19 I/O4 (io), 20 I/O3 (io), 21 I/O2 (io), 22 I/O1 (io), 23 I/O0 (io), 24 VCC (power)

## PALCE22V10-25LMB
designator U?
Flash Erasable, Reprogrammable CMOS PAL Device; ComponentAvailability: Not for New Design; Published: 11-Dec-2002; DatasheetVersion: Sep-1996; PackageVersion: Apr-2001; PackageReference: L64; Publisher: Altium Limited; PackageDescription: Leadless Chip Carrier; 28 Terminals; Body 11.4 x 11.4 mm; ComponentLink1Description: Manufacturer Link; ComponentLink1URL: http://www.cypress.com/; ComponentLink2Description: Datasheet; ComponentLink2URL: http://www.cypress.com/portal/server.pt/gateway/PTARGS_0_2_1524_209_259_43/http%3B/sjapp20.mis.cypress.com%3B7001/publishedcontent/publish/design_resources/datasheets/contents/palce22v10_5.pdf
footprint L64 (Leadless Chip Carrier; 28 Terminals; Body 11.4 x 11.4 mm)
pins: 1 NC, 2 CP/IN (in), 3 IN (in), 4 IN (in), 5 IN (in), 6 IN (in), 7 IN (in), 8 NC, 9 IN (in), 10 IN (in), 11 IN (in), 12 IN (in), 13 IN (in), 14 VSS (power), 15 NC, 16 IN (in), 17 I/O9 (io), 18 I/O8 (io), 19 I/O7 (io), 20 I/O6 (io), 21 I/O5 (io), 22 NC, 23 I/O4 (io), 24 I/O3 (io), 25 I/O2 (io), 26 I/O1 (io), 27 I/O0 (io), 28 VCC (power)

## PALCE22V10-25PC
designator U?
Flash Erasable, Reprogrammable CMOS PAL Device; ComponentAvailability: Not for New Design; Published: 11-Dec-2002; LatestRevisionDate: 06-Oct-2005; LatestRevisionNote: Increased PCB silkscreen length.; DatasheetVersion: Sep-1996; PackageVersion: Mar-2005; PackageReference: P13; Publisher: Altium Limited; PackageDescription: DIP, Molded; 24 Leads; Row Spacing 7.62 mm; Pitch 2.54 mm; ComponentLink1Description: Manufacturer Link; ComponentLink1URL: http://www.cypress.com/; ComponentLink2Description: Datasheet; ComponentLink2URL: http://www.cypress.com/portal/server.pt/gateway/PTARGS_0_2_1524_209_259_43/http%3B/sjapp20.mis.cypress.com%3B7001/publishedcontent/publish/design_resources/datasheets/contents/palce22v10_5.pdf
footprint P13 (DIP, Molded; 24 Leads; Row Spacing 7.62 mm; Pitch 2.54 mm)
3D model P13 (DIP, Molded; 24 Leads; Row Spacing 7.62 mm; Pitch 2.54 mm)
pins: 1 CP/IN (in), 2 IN (in), 3 IN (in), 4 IN (in), 5 IN (in), 6 IN (in), 7 IN (in), 8 IN (in), 9 IN (in), 10 IN (in), 11 IN (in), 12 VSS (power), 13 IN (in), 14 I/O9 (io), 15 I/O8 (io), 16 I/O7 (io), 17 I/O6 (io), 18 I/O5 (io), 19 I/O4 (io), 20 I/O3 (io), 21 I/O2 (io), 22 I/O1 (io), 23 I/O0 (io), 24 VCC (power)

## PALCE22V10-25PI
designator U?
Flash Erasable, Reprogrammable CMOS PAL Device; ComponentAvailability: Not for New Design; Published: 11-Dec-2002; LatestRevisionDate: 06-Oct-2005; LatestRevisionNote: Increased PCB silkscreen length.; DatasheetVersion: Sep-1996; PackageVersion: Mar-2005; PackageReference: P13; Publisher: Altium Limited; PackageDescription: DIP, Molded; 24 Leads; Row Spacing 7.62 mm; Pitch 2.54 mm; ComponentLink1Description: Manufacturer Link; ComponentLink1URL: http://www.cypress.com/; ComponentLink2Description: Datasheet; ComponentLink2URL: http://www.cypress.com/portal/server.pt/gateway/PTARGS_0_2_1524_209_259_43/http%3B/sjapp20.mis.cypress.com%3B7001/publishedcontent/publish/design_resources/datasheets/contents/palce22v10_5.pdf
footprint P13 (DIP, Molded; 24 Leads; Row Spacing 7.62 mm; Pitch 2.54 mm)
3D model P13 (DIP, Molded; 24 Leads; Row Spacing 7.62 mm; Pitch 2.54 mm)
pins: 1 CP/IN (in), 2 IN (in), 3 IN (in), 4 IN (in), 5 IN (in), 6 IN (in), 7 IN (in), 8 IN (in), 9 IN (in), 10 IN (in), 11 IN (in), 12 VSS (power), 13 IN (in), 14 I/O9 (io), 15 I/O8 (io), 16 I/O7 (io), 17 I/O6 (io), 18 I/O5 (io), 19 I/O4 (io), 20 I/O3 (io), 21 I/O2 (io), 22 I/O1 (io), 23 I/O0 (io), 24 VCC (power)

## PLDC20G10-25JC
designator U?
CMOS Generic 24-Pin Reprogrammable Logic Device; ComponentAvailability: Not for New Design; Published: 11-Dec-2002; LatestRevisionDate: 13-Apr-2006; LatestRevisionNote: IPC-7351 Footprint Added.; DatasheetVersion: 26-Mar-1997; PackageVersion: Jul-2000; PackageReference: J64; Publisher: Altium Limited; PackageDescription: 28-Pin Plastic Leaded Chip Carrier 1.27 mm Pitch; Code_IPC: PLCC-28; ComponentLink1Description: Manufacturer Link; ComponentLink1URL: http://www.cypress.com/; ComponentLink2Description: Datasheet; ComponentLink2URL: http://www.cypress.com/portal/server.pt/gateway/PTARGS_0_2_1524_209_259_43/http%3B/sjapp20.mis.cypress.com%3B7001/publishedcontent/publish/design_resources/datasheets/contents/pldc20g10_5.pdf
footprint J64_N (Leaded Chip Carrier, 28-Leads, Body 11.5x11.5mm, Pitch 1.27mm, IPC Medium Density)
footprint J64_L (Leaded Chip Carrier, 28-Leads, Body 11.5x11.5mm, Pitch 1.27mm, IPC High Density)
footprint J64_M (Leaded Chip Carrier, 28-Leads, Body 11.5x11.5mm, Pitch 1.27mm, IPC Low Density)
3D model PLDC20G10-J64 (28-Pin Plastic Leaded Chip Carrier 1.27 mm Pitch)
pins: 1 CP/IN (in), 2 IN (in), 3 IN (in), 4 IN (in), 5 NC, 6 IN (in), 7 IN (in), 8 NC, 9 IN (in), 10 IN (in), 11 NC, 12 IN (in), 13 IN (in), 14 IN (in), 15 VSS (power), 16 IN/~{OE} (in), 17 I/O9 (io), 18 I/O8 (io), 19 NC, 20 I/O7 (io), 21 I/O6 (io), 22 I/O5 (io), 23 I/O4 (io), 24 I/O3 (io), 25 I/O2 (io), 26 I/O1 (io), 27 I/O0 (io), 28 VCC (power)

## PLDC20G10-25PC/PI
designator U?
CMOS Generic 24-Pin Reprogrammable Logic Device; ComponentAvailability: Not for New Design; Published: 11-Dec-2002; LatestRevisionDate: 06-Oct-2005; LatestRevisionNote: Increased PCB silkscreen length.; DatasheetVersion: 26-Mar-1997; PackageVersion: Mar-2005; PackageReference: P13; Publisher: Altium Limited; PackageDescription: DIP, Molded; 24 Leads; Row Spacing 7.62 mm; Pitch 2.54 mm; ComponentLink1Description: Manufacturer Link; ComponentLink1URL: http://www.cypress.com/; ComponentLink2Description: Datasheet; ComponentLink2URL: http://www.cypress.com/portal/server.pt/gateway/PTARGS_0_2_1524_209_259_43/http%3B/sjapp20.mis.cypress.com%3B7001/publishedcontent/publish/design_resources/datasheets/contents/pldc20g10_5.pdf
footprint P13 (DIP, Molded; 24 Leads; Row Spacing 7.62 mm; Pitch 2.54 mm)
3D model P13 (DIP, Molded; 24 Leads; Row Spacing 7.62 mm; Pitch 2.54 mm)
pins: 1 CP/IN (in), 2 IN (in), 3 IN (in), 4 IN (in), 5 IN (in), 6 IN (in), 7 IN (in), 8 IN (in), 9 IN (in), 10 IN (in), 11 IN (in), 12 VSS (power), 13 IN/~{OE} (in), 14 I/O9 (io), 15 I/O8 (io), 16 I/O7 (io), 17 I/O6 (io), 18 I/O5 (io), 19 I/O4 (io), 20 I/O3 (io), 21 I/O2 (io), 22 I/O1 (io), 23 I/O0 (io), 24 VCC (power)

## PLDC20G10-25WC
designator U?
CMOS Generic 24-Pin Reprogrammable Logic Device; ComponentAvailability: Not for New Design; Published: 11-Dec-2002; LatestRevisionDate: 04-Mar-2005; LatestRevisionNote: Stylized 3D Model Added.; DatasheetVersion: 26-Mar-1997; PackageVersion: Apr-2001; PackageReference: W14; Publisher: Altium Limited; PackageDescription: CerDIP, Window; 24 Leads; Row Spacing 7.62 mm; Pitch 2.54 mm; Code_JEDEC: MS-001-AF; ComponentLink1Description: Manufacturer Link; ComponentLink1URL: http://www.cypress.com/; ComponentLink2Description: Datasheet; ComponentLink2URL: http://www.cypress.com/portal/server.pt/gateway/PTARGS_0_2_1524_209_259_43/http%3B/sjapp20.mis.cypress.com%3B7001/publishedcontent/publish/design_resources/datasheets/contents/pldc20g10_5.pdf
footprint W14 (CerDIP, Window; 24 Leads; Row Spacing 7.62 mm; Pitch 2.54 mm)
3D model D14 (CerDIP, Window; 24 Leads; Row Spacing 7.62 mm; Pitch 2.54 mm)
pins: 1 CP/IN (in), 2 IN (in), 3 IN (in), 4 IN (in), 5 IN (in), 6 IN (in), 7 IN (in), 8 IN (in), 9 IN (in), 10 IN (in), 11 IN (in), 12 VSS (power), 13 IN/~{OE} (in), 14 I/O9 (io), 15 I/O8 (io), 16 I/O7 (io), 17 I/O6 (io), 18 I/O5 (io), 19 I/O4 (io), 20 I/O3 (io), 21 I/O2 (io), 22 I/O1 (io), 23 I/O0 (io), 24 VCC (power)

## PLDC20G10-30DMB
designator U?
CMOS Generic 24-Pin Reprogrammable Logic Device; ComponentAvailability: Not for New Design; Published: 11-Dec-2002; LatestRevisionDate: 04-Mar-2005; LatestRevisionNote: Stylized 3D Model Added.; DatasheetVersion: 26-Mar-1997; PackageVersion: Jul-2001; PackageReference: D14; Publisher: Altium Limited; PackageDescription: CerDIP; 24 Leads; Row Spacing 7.62 mm; Pitch 2.54 mm; Code_JEDEC: MS-001-AF; ComponentLink1Description: Manufacturer Link; ComponentLink1URL: http://www.cypress.com/; ComponentLink2Description: Datasheet; ComponentLink2URL: http://www.cypress.com/portal/server.pt/gateway/PTARGS_0_2_1524_209_259_43/http%3B/sjapp20.mis.cypress.com%3B7001/publishedcontent/publish/design_resources/datasheets/contents/pldc20g10_5.pdf
footprint D14 (CerDIP; 24 Leads; Row Spacing 7.62 mm; Pitch 2.54 mm)
3D model D14 (CerDIP; 24 Leads; Row Spacing 7.62 mm; Pitch 2.54 mm)
pins: 1 CP/IN (in), 2 IN (in), 3 IN (in), 4 IN (in), 5 IN (in), 6 IN (in), 7 IN (in), 8 IN (in), 9 IN (in), 10 IN (in), 11 IN (in), 12 VSS (power), 13 IN/~{OE} (in), 14 I/O9 (io), 15 I/O8 (io), 16 I/O7 (io), 17 I/O6 (io), 18 I/O5 (io), 19 I/O4 (io), 20 I/O3 (io), 21 I/O2 (io), 22 I/O1 (io), 23 I/O0 (io), 24 VCC (power)

## PLDC20G10-30LMB
designator U?
CMOS Generic 24-Pin Reprogrammable Logic Device; ComponentAvailability: Not for New Design; Published: 11-Dec-2002; DatasheetVersion: 26-Mar-1997; PackageVersion: Apr-2001; PackageReference: L64; Publisher: Altium Limited; PackageDescription: Leadless Chip Carrier; 28 Terminals; Body 11.4 x 11.4 mm; ComponentLink1Description: Manufacturer Link; ComponentLink1URL: http://www.cypress.com/; ComponentLink2Description: Datasheet; ComponentLink2URL: http://www.cypress.com/portal/server.pt/gateway/PTARGS_0_2_1524_209_259_43/http%3B/sjapp20.mis.cypress.com%3B7001/publishedcontent/publish/design_resources/datasheets/contents/pldc20g10_5.pdf
footprint L64 (Leadless Chip Carrier; 28 Terminals; Body 11.4 x 11.4 mm)
pins: 1 CP/IN (in), 2 IN (in), 3 IN (in), 4 NC, 5 IN (in), 6 IN (in), 7 IN (in), 8 IN (in), 9 IN (in), 10 IN (in), 11 NC, 12 IN (in), 13 IN (in), 14 VSS (power), 15 IN/~{OE} (in), 16 I/O9 (io), 17 I/O8 (io), 18 NC, 19 I/O7 (io), 20 I/O6 (io), 21 I/O5 (io), 22 I/O4 (io), 23 I/O3 (io), 24 I/O2 (io), 25 NC, 26 I/O1 (io), 27 I/O0 (io), 28 VCC (power)